# EAGLE library part DSPIC30F4013-20I/PT (library Microchip_By_element14_Batch_1)
16-bit Digital Signal Controllers
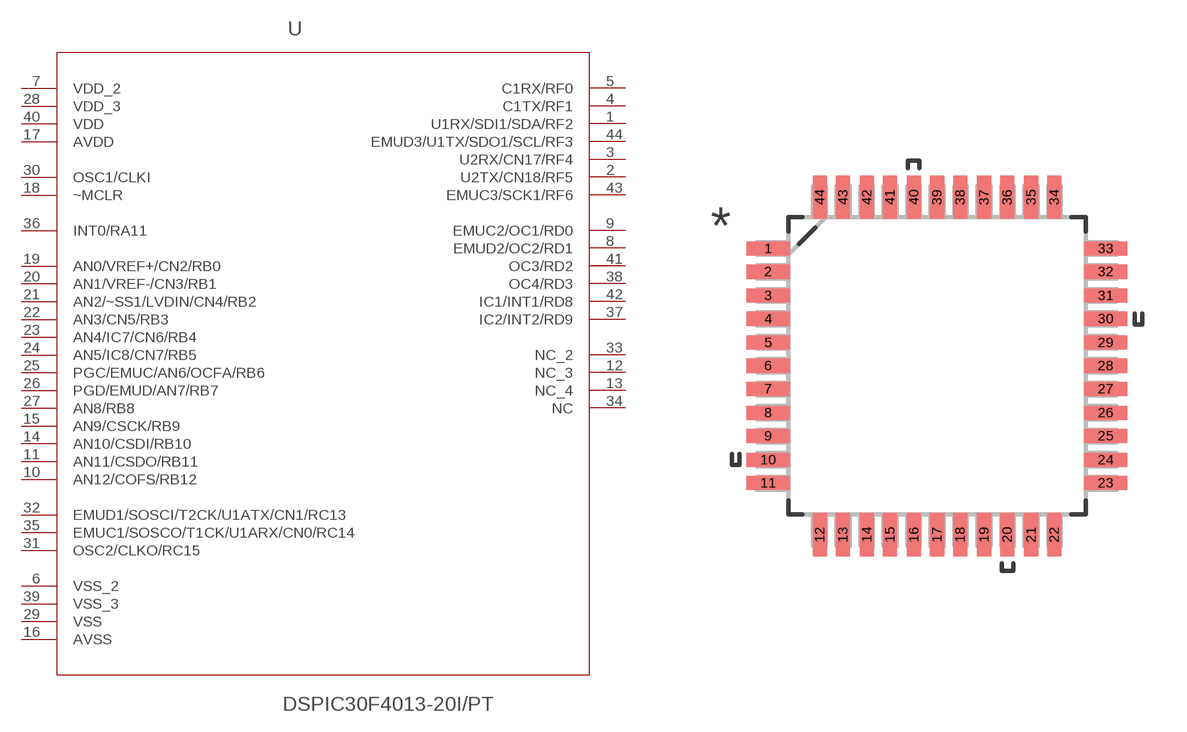
[diagram p306: symbol with the pads of QFP80P1200X1200X120-44N; footprint QFP80P1200X1200X120-44N]

Designator prefix -

## DSPIC30F4013-20I/PT (MPN: DSPIC30F4013-20I/PT; OC_FARNELL: -; OC_NEWARK: 71J3768; PACKAGE: TQFP-44; SUPPLIER: Microchip)  [QFP80P1200X1200X120-44N]
1  U1RX/SDI1/SDA/RF2
2  U2TX/CN18/RF5
3  U2RX/CN17/RF4
4  C1TX/RF1
5  C1RX/RF0
6  VSS_2  pwr
7  VDD_2  pwr
8  EMUD2/OC2/RD1
9  EMUC2/OC1/RD0
10  AN12/COFS/RB12
11  AN11/CSDO/RB11
12  NC_3  nc
13  NC_4  nc
14  AN10/CSDI/RB10
15  AN9/CSCK/RB9
16  AVSS  pwr
17  AVDD  pwr
18  ~MCLR  in
19  AN0/VREF+/CN2/RB0
20  AN1/VREF-/CN3/RB1
21  AN2/~SS1/LVDIN/CN4/RB2
22  AN3/CN5/RB3
23  AN4/IC7/CN6/RB4
24  AN5/IC8/CN7/RB5
25  PGC/EMUC/AN6/OCFA/RB6
26  PGD/EMUD/AN7/RB7
27  AN8/RB8
28  VDD_3  pwr
29  VSS  pwr
30  OSC1/CLKI  in
31  OSC2/CLKO/RC15
32  EMUD1/SOSCI/T2CK/U1ATX/CN1/RC13
33  NC_2  nc
34  NC  nc
35  EMUC1/SOSCO/T1CK/U1ARX/CN0/RC14
36  INT0/RA11
37  IC2/INT2/RD9
38  OC4/RD3
39  VSS_3  pwr
40  VDD  pwr
41  OC3/RD2
42  IC1/INT1/RD8
43  EMUC3/SCK1/RF6
44  EMUD3/U1TX/SDO1/SCL/RF3

## Footprint QFP80P1200X1200X120-44N (pad centres in mm)
smd 1.473 x 0.483: 1 -5.74,3.988; 2 -5.74,3.2; 3 -5.74,2.388; 4 -5.74,1.6; 5 -5.74,0.787; 6 -5.74,0; 7 -5.74,-0.787; 8 -5.74,-1.6; 9 -5.74,-2.388; 10 -5.74,-3.2; 11 -5.74,-3.988; 23 5.74,-3.988; 24 5.74,-3.2; 25 5.74,-2.388; 26 5.74,-1.6; 27 5.74,-0.787; 28 5.74,0; 29 5.74,0.787; 30 5.74,1.6; 31 5.74,2.388; 32 5.74,3.2; 33 5.74,3.988
smd 0.483 x 1.473: 12 -3.988,-5.74; 13 -3.2,-5.74; 14 -2.388,-5.74; 15 -1.6,-5.74; 16 -0.787,-5.74; 17 0,-5.74; 18 0.787,-5.74; 19 1.6,-5.74; 20 2.388,-5.74; 21 3.2,-5.74; 22 3.988,-5.74; 34 3.988,5.74; 35 3.2,5.74; 36 2.388,5.74; 37 1.6,5.74; 38 0.787,5.74; 39 0,5.74; 40 -0.787,5.74; 41 -1.6,5.74; 42 -2.388,5.74; 43 -3.2,5.74; 44 -3.988,5.74